# Altium schematic symbol library HD3SS.SchLib: 1 symbol
Pins are listed as number, name and electrical type; pins without a type are passive.

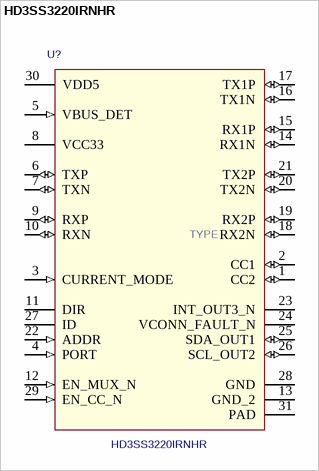
[diagram p0: symbol HD3SS3220IRNHR]

## HD3SS3220IRNHR
designator U?  value TYPE
Mfr_Name: Texas Instruments; Copyright: Copyright (C) 2022 Ultra Librarian. All rights reserved.; Manufacturer_Part_Number: HD3SS3220IRNHR
footprint RNH0030A
pins: 1 CC2 (io), 2 CC1 (io), 3 CURRENT_MODE (in), 4 PORT (in), 5 VBUS_DET (in), 6 TXP (io), 7 TXN (io), 8 VCC33 (power), 9 RXP (io), 10 RXN (io), 11 DIR, 12 EN_MUX_N (in), 13 GND_2 (power), 14 RX1N (io), 15 RX1P (io), 16 TX1N (io), 17 TX1P (io), 18 RX2N (io), 19 RX2P (io), 20 TX2N (io), 21 TX2P (io), 22 ADDR (in), 23 INT_OUT3_N, 24 VCONN_FAULT_N, 25 SDA_OUT1 (io), 26 SCL_OUT2 (io), 27 ID, 28 GND (power), 29 EN_CC_N (in), 30 VDD5 (power), 31 PAD (power)